# Altium footprint library Passives.PcbLib: 11 footprints
Each footprint in its own frame and in the unit in brackets; x right, y up, seen from the top. Pads: shape width x height; smd on the part's side, far side on the other; paste and mask are expansions set on the pad; w line width, h text height; cw(c..) or ccw(c..) is an arc to the next point about the centre after c.
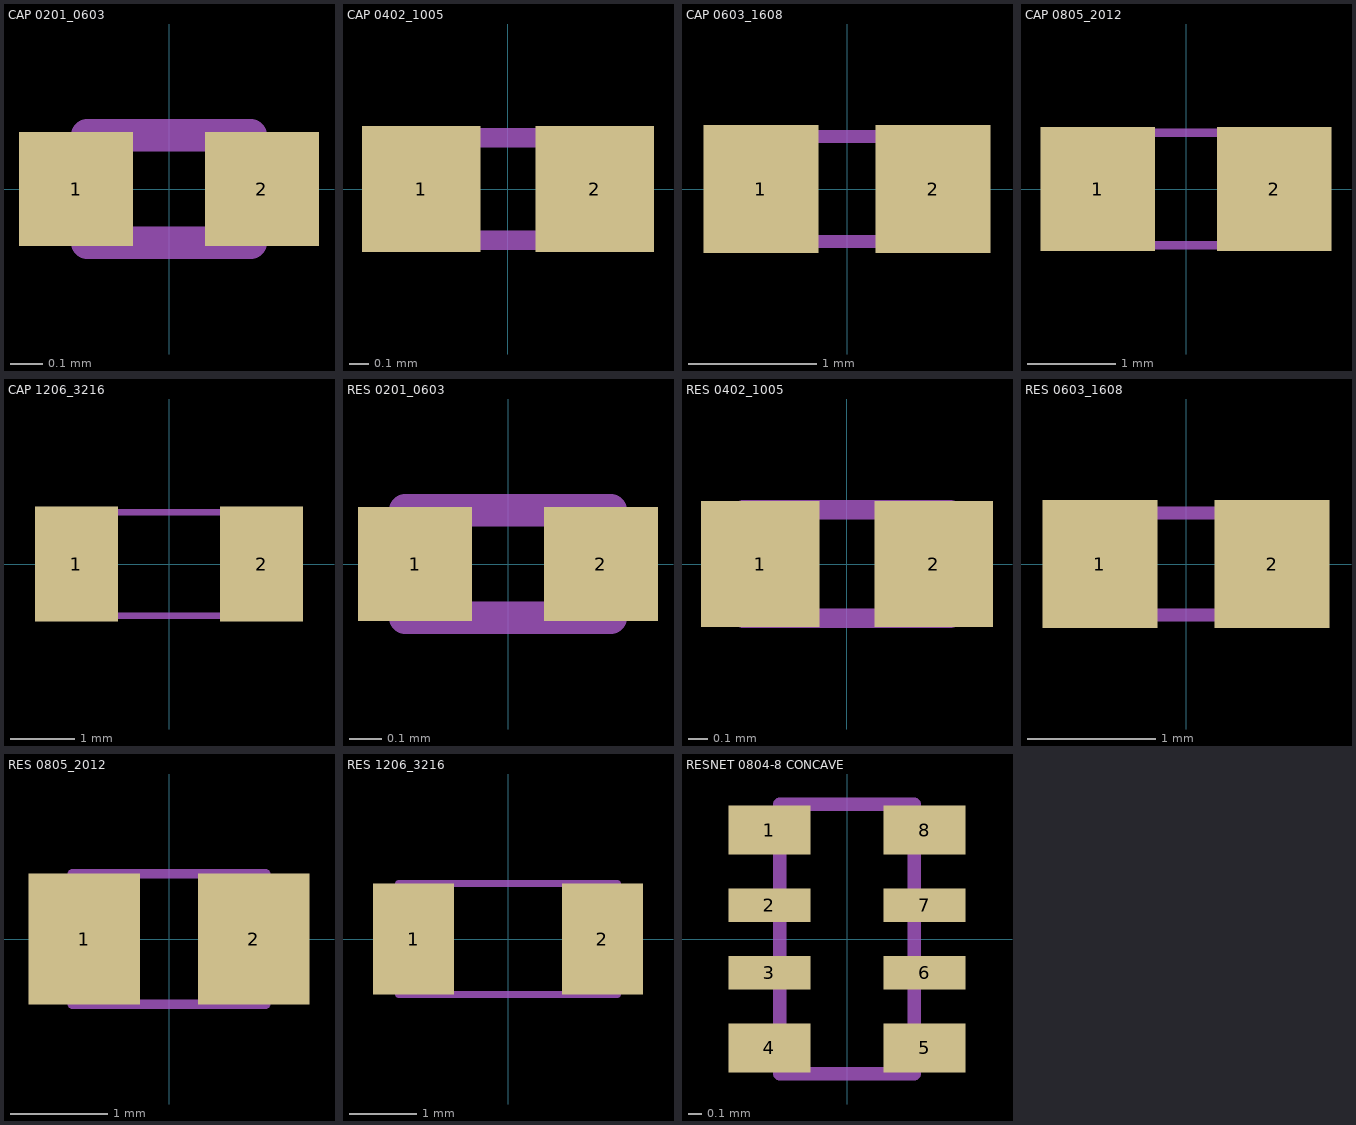
[diagram p0: the footprints below, top view; thin cyan lines are the x and y axes]

## CAP 0201_0603 [mm] "Chip Capacitor, 2-Leads, Body 0.60x0.30mm, IPC Medium Density"
height 0.33
pads (2):
  rect 0.35x0.35 smd: 1(-0.285,0) 2(0.285,0)
Mechanical 1:
  lines w0.1: -0.25,-0.165 0.25,-0.165 0.25,0.165 -0.25,0.165 -0.25,-0.165
3D body "CAP 0201.step": height 0.26, standoff 0, extent -0.25,-0.131 0.25,0.131

## CAP 0402_1005 [mm] "Chip Capacitor, 2-Leads, Body 1.02x0.51mm, IPC Medium Density"
height 0.52
pads (2):
  rect 0.6x0.64 smd: 1(-0.44,0) 2(0.44,0)
Mechanical 1:
  lines w0.1: -0.515,-0.26 -0.515,0.26 0.515,0.26 0.515,-0.26 -0.515,-0.26
3D body "0402 cap.STEP": height 0.52, standoff 0, extent -0.5,-0.262 0.5,0.262

## CAP 0603_1608 [mm] "Chip Capacitor, 2-Leads, Body 1.60x0.80mm, IPC Medium Density"
height 0.89
pads (2):
  rect 0.9x1 smd: 1(-0.675,0) 2(0.675,0)
Mechanical 1:
  lines w0.1: -0.8,-0.412 -0.8,0.412 0.8,0.412 0.8,-0.412 -0.8,-0.412
3D body "0603 cap.STEP": height 0.82, standoff 0, extent -0.8,-0.412 0.8,0.412

## CAP 0805_2012 [mm] "Chip Capacitor, 2-Leads, Body 2.00x1.20mm, IPC Medium Density"
height 1.15
pads (2):
  rect 1.3x1.4 smd: 1(-1,0) 2(1,0)
Mechanical 1:
  lines w0.1: -1,-0.637 -1,0.637 1,0.637 1,-0.637 -1,-0.637
3D body "0805 cap.STEP": height 1.26, standoff -0.02, extent -1,-0.637 1,0.637

## CAP 1206_3216 [mm] "Chip Capacitor, 2-Leads, Body 3.25x1.60mm, IPC Medium Density"
height 1.6
pads (2):
  rect 1.3x1.8 smd: 1(-1.45,0) 2(1.45,0)
Mechanical 1:
  lines w0.1: -1.6,-0.812 -1.6,0.812 1.6,0.812 1.6,-0.812 -1.6,-0.812
3D body "1206 cap.STEP": height 1.62, standoff 0, extent -1.6,-0.812 1.6,0.812

## RES 0201_0603 [mm] "Chip Resistor, 2-Leads, Body 0.60x0.30mm, IPC Medium Density"
height 0.26
pads (2):
  rect 0.35x0.35 smd: 1(-0.285,0) 2(0.285,0)
Mechanical 1:
  lines w0.1: -0.315,-0.165 0.315,-0.165 0.315,0.165 -0.315,0.165 -0.315,-0.165
3D body "RES 0201.STEP": height 0.21, standoff -0.01, extent -0.3,-0.15 0.3,0.15

## RES 0402_1005 [mm] "Chip Resistor, 2-Leads, Body 1.0x0.5mm, IPC Medium Density"
height 0.4
pads (2):
  rect 0.6x0.64 smd: 1(-0.44,0) 2(0.44,0)
Mechanical 1:
  lines w0.1: -0.525,-0.275 -0.525,0.275 0.525,0.275 0.525,-0.275 -0.525,-0.275
3D body "0402 resistor.STEP": height 0.35, standoff 0, extent -0.5,-0.25 0.5,0.25

## RES 0603_1608 [mm] "Chip Resistor, 2-Leads, Body 1.60x0.80mm, IPC Medium Density"
height 0.45
pads (2):
  rect 0.9x1 smd: 1(-0.675,0) 2(0.675,0)
Mechanical 1:
  lines w0.1: -0.8,-0.4 -0.8,0.4 0.8,0.4 0.8,-0.4 -0.8,-0.4
3D body "0603 resistor.STEP": height 0.45, standoff 0, extent -0.8,-0.4 0.8,0.4

## RES 0805_2012 [mm] "Chip Resistor, 2-Leads, Body 2.00x1.25mm, IPC Medium Density"
height 0.7
pads (2):
  rect 1.15x1.35 smd: 1(-0.875,0) 2(0.875,0)
Mechanical 1:
  lines w0.1: -1,-0.675 1,-0.675 1,0.675 -1,0.675 -1,-0.675
3D body "0805 resistor.STEP": height 0.6, standoff 0, extent -1,-0.625 1,0.625

## RES 1206_3216 [mm] "Chip Resistor, 2-Leads, Body 3.13x1.55mm, IPC Medium Density"
height 0.7
pads (2):
  rect 1.2x1.65 smd: 1(-1.4,0) 2(1.4,0)
Mechanical 1:
  lines w0.1: -1.625,-0.825 -1.625,0.825 1.625,0.825 1.625,-0.825 -1.625,-0.825
3D body "1206 resistor.STEP": height 0.6, standoff 0, extent -1.6,-0.8 1.6,0.8

## RESNET 0804-8 CONCAVE [mm] "4 resistor 2.0x1.0mm, 0.5mm high"
height 0.5
pads (8):
  rect 0.61x0.365 smd: 1(-0.575,0.808) 4(-0.575,-0.808) 5(0.575,-0.808) 8(0.575,0.808)
  rect 0.61x0.25 smd: 2(-0.575,0.25) 3(-0.575,-0.25) 6(0.575,-0.25) 7(0.575,0.25)
Mechanical 1:
  lines w0.1: -0.5,-1 0.5,-1 0.5,1 -0.5,1 -0.5,-1
3D body "RESNET - 0804 Concave.step": height 0.51, standoff 0, extent -0.525,-1.025 0.525,1.025